# EAGLE library part 0X8 (library Uni-Slime-PCB)
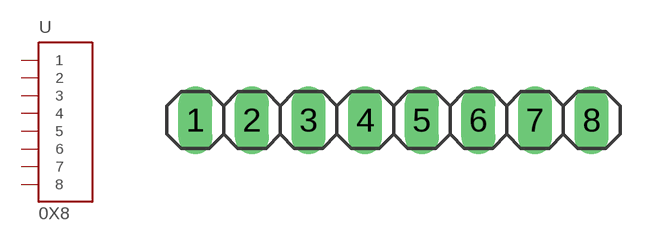
[diagram p2: symbol with the pads of 1X08; footprint 1X08]

Designator prefix -

## 0X8  [1X08]
1  1  in
2  2  in
3  3  in
4  4  in
5  5  in
6  6  in
7  7  in
8  8  in

## Footprint 1X08 (pad centres in mm)
PIN HEADER
drill 1.016 long: 1 -8.89,0; 2 -6.35,0; 3 -3.81,0; 4 -1.27,0; 5 1.27,0; 6 3.81,0; 7 6.35,0; 8 8.89,0